# Altium schematic symbol library Inductors.SchLib: 6 symbols
Pins are listed as number, name and electrical type; pins without a type are passive.

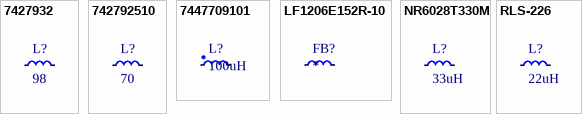
[diagram p0: symbols 7427932 to RLS-226]

## 7427932
designator L?, comment 98
Ferrite Bead 98 Ohm 2SMD 1LN; Manufacturer: Wurth Electronics; Manufacturer Part Number: 7427932; DC Resistance (DCR): 0.9mR; Max DC Current: 6A; Tolerance: 25%; Shielding: Unshielded; Number of Lines: 1; Test Frequency: 100MHz; Impedance: 98R; Supplier 1: Digi-Key; Supplier Part Number 1: 732-2394-1-ND; RoHS: Yes; Category: Ferrite Beads and Chips; Stock 1: 698; Mount: Surface Mount; Case/Package: SMD/SMT; Case Code (Metric): 4532; Case Code (Imperial): 1812; Min Operating Temperature: -55°C; Max Operating Temperature: 125°C; Termination: SMD/SMT; Package Quantity: 1; Packaging: Tape and Reel; Max Current Rating: 6A; Length: 7.8mm; Height: 3mm; Depth: 4.75mm; Width: 0.187inch; REACH SVHC: Unknown; ComponentLink1URL: https://datasheet.ciiva.com/1014/7427932-1014097.pdf?src-supplier=Digi-Key; ComponentLink1Description: https://datasheet.ciiva.com/1014/7427932-1014097.pdf?src-supplier=Digi-Key; ComponentLink2URL: https://datasheet.ciiva.com/1466/1696119-1466626.pdf?src-supplier=Element14; ComponentLink2Description: https://datasheet.ciiva.com/1466/1696119-1466626.pdf?src-supplier=Element14; ComponentLink3URL: https://datasheet.ciiva.com/11796/0900766b80f886b0-11796146.pdf?src-supplier=RSComponents; ComponentLink3Description: https://datasheet.ciiva.com/11796/0900766b80f886b0-11796146.pdf?src-supplier=RSComponents; ComponentLink4URL: https://datasheet.ciiva.com/23763/7427932-23763047.pdf?src-supplier=Newark; ComponentLink4Description: https://datasheet.ciiva.com/23763/7427932-23763047.pdf?src-supplier=Newark; ComponentLink5URL: https://datasheet.ciiva.com/4939/7427932-72413-4939403.pdf?src-supplier=Mouser; ComponentLink5Description: https://datasheet.ciiva.com/4939/7427932-72413-4939403.pdf?src-supplier=Mouser; ComponentLink6URL: https://datasheet.ciiva.com/1014/7427932-1014098.pdf?src-supplier=Digi-Key; ComponentLink6Description: https://datasheet.ciiva.com/1014/7427932-1014098.pdf?src-supplier=Digi-Key; ComponentLink7URL: https://datasheet.ciiva.com/1014/7427932-1014099.pdf?src-supplier=Digi-Key; ComponentLink7Description: https://datasheet.ciiva.com/1014/7427932-1014099.pdf?src-supplier=Digi-Key; ComponentLink8URL: https://datasheet.ciiva.com/22711/1696119-22711445.pdf?src-supplier=Element14; ComponentLink8Description: https://datasheet.ciiva.com/22711/1696119-22711445.pdf?src-supplier=Element14
footprint 7427932
pins: 1, 2

## 742792510
designator L?, comment 70
WURTH ELEKTRONIK - 742792510 - FERRITE BEAD, 70R, 6A, 1812; Manufacturer: Wurth Electronics; Max DC Current: 3mA; DC Resistance (DCR): 30mR; Test Frequency: 100MHz; Number of Lines: 1; Tolerance: 25%; Supplier 1: Digi-Key; Supplier Part Number 1: 732-1640-1-ND; Manufacturer Part Number: 742792510; RoHS: Yes; Category: Ferrite Beads and Chips; Stock 1: 5974; Mount: Surface Mount; Case/Package: SMD/SMT; Weight: 0.003951oz; Case Code (Imperial): 1812; Case Code (Metric): 4532; Material: Ferrite; Min Operating Temperature: -55°C; Max Operating Temperature: 125°C; Max Current Rating: 6A; Termination: SMD/SMT; Package Quantity: 1; Packaging: Tape and Reel; Current Rating: 6A; Impedance: 70R; Resistance: 30mR; Length: 4.5mm; Height: 1.5mm; Depth: 3.2mm; Width: 3.2mm; Lead Free: Lead Free; REACH SVHC: Unknown; ComponentLink1URL: https://datasheet.ciiva.com/1475/1695992-1475250.pdf?src-supplier=Farnell; ComponentLink1Description: https://datasheet.ciiva.com/1475/1695992-1475250.pdf?src-supplier=Farnell; ComponentLink2URL: https://datasheet.ciiva.com/11803/0900766b80bbd134-11803157.pdf?src-supplier=RSComponents; ComponentLink2Description: https://datasheet.ciiva.com/11803/0900766b80bbd134-11803157.pdf?src-supplier=RSComponents; ComponentLink3URL: https://datasheet.ciiva.com/23762/742792510-23762981.pdf?src-supplier=Newark; ComponentLink3Description: https://datasheet.ciiva.com/23762/742792510-23762981.pdf?src-supplier=Newark; ComponentLink4URL: https://datasheet.ciiva.com/4940/742792510-72179-4940456.pdf?src-supplier=Mouser; ComponentLink4Description: https://datasheet.ciiva.com/4940/742792510-72179-4940456.pdf?src-supplier=Mouser; ComponentLink5URL: https://datasheet.ciiva.com/1013/742792510-1013644.pdf?src-supplier=Digi-Key; ComponentLink5Description: https://datasheet.ciiva.com/1013/742792510-1013644.pdf?src-supplier=Digi-Key; ComponentLink6URL: https://datasheet.ciiva.com/1013/742792510-1013645.pdf?src-supplier=Digi-Key; ComponentLink6Description: https://datasheet.ciiva.com/1013/742792510-1013645.pdf?src-supplier=Digi-Key; ComponentLink7URL: https://datasheet.ciiva.com/1126/1695992-1126824.pdf?src-supplier=Element14; ComponentLink7Description: https://datasheet.ciiva.com/1126/1695992-1126824.pdf?src-supplier=Element14; ComponentLink8URL: https://datasheet.ciiva.com/1013/742792510-1013646.pdf?src-supplier=Digi-Key; ComponentLink8Description: https://datasheet.ciiva.com/1013/742792510-1013646.pdf?src-supplier=Digi-Key
footprint 1812
pins: 1, 2

## 7447709101
designator L?, comment 100uH
FIXED IND 100UH 2.5A 110 MOHM; Material: Ferrite; Impedance: 300mR; Current Rating: 500mA; Number of Lines: 1; Test Frequency: 100MHz; Resistance: 950R; Shielding: Unshielded; RoHS: Yes; Mount: Surface Mount; Case/Package: 1206; Case Code (Metric): 3216; Case Code (Imperial): 1206; Min Operating Temperature: -40°C; Max Operating Temperature: 125°C; Package Quantity: 1; Packaging: Tape and Reel; Max Current Rating: 500mA; DC Resistance (DCR): 300mR; Max DC Current: 500mA; Termination: SMD/SMT; Length: 3.2mm; Height: 0.051inch; Width: 0.063inch; Depth: 1.8mm; Lead Free: Lead Free; ComponentLink1Description: https://www.digikey.ca/product-detail/en/w-rth-elektronik/7447709101/732-1248-1-ND/1639309; ComponentLink1URL: https://www.digikey.ca/product-detail/en/w-rth-elektronik/7447709101/732-1248-1-ND/1639309; Supplier 1: Digi-Key; Supplier Part Number 1: 732-1248-1-ND
footprint 7447709101
pins: 1, 2

## LF1206E152R-10
designator FB?
FERRITE BEAD 946 OHM 1206 1LN; Manufacturer 1: Laird; Manufacturer Part Number 1: LF1206E152R-10; Impedance: 300mR; Current Rating: 500mA; Number of Lines: 1; Test Frequency: 100MHz; Resistance: 950R; Shielding: Unshielded; ComponentLink1Description: mouser; ComponentLink1URL: https://www.mouser.ca/ProductDetail/Laird-Performance-Materials/LF1206E152R-10?qs=sGAEpiMZZMtdyQheitOmRQJP4YNOTsGtF9de3w5p7BA%3D; Supplier 1: Digi-Key; Stock 1: 31440; Pricing 1: 1=0.22000, 10=0.17900, 25=0.13960, 50=0.11560, 100=0.09960, 250=0.07972, 500=0.07174, 1000=0.05978 (USD); RoHS: Yes; Mount: Surface Mount; Case/Package: 1206; Case Code (Metric): 3216; Case Code (Imperial): 1206; Material: Ferrite; Min Operating Temperature: -40°C; Max Operating Temperature: 125°C; Package Quantity: 1; Packaging: Tape and Reel; Max Current Rating: 500mA; DC Resistance (DCR): 300mR; Max DC Current: 500mA; Termination: SMD/SMT; Length: 3.2mm; Height: 0.051inch; Width: 0.063inch; Depth: 1.8mm; Lead Free: Lead Free; ComponentLink2URL: https://datasheet.ciiva.com/8512/lf1206e152r-10-a-vp-8512625.pdf?src-supplier=Avnet; ComponentLink2Description: https://datasheet.ciiva.com/8512/lf1206e152r-10-a-vp-8512625.pdf?src-supplier=Avnet; ComponentLink3URL: https://datasheet.ciiva.com/1013/lf1206e152r-10-b-1013350.pdf?src-supplier=Digi-Key; ComponentLink3Description: https://datasheet.ciiva.com/1013/lf1206e152r-10-b-1013350.pdf?src-supplier=Digi-Key; Supplier Part Number 1: 240-2566-1-ND; ComponentLink4Description: https://www.digikey.com/product-detail/en/laird-signal-integrity-products/LF1206E152R-10/240-2566-1-ND/1236446; ComponentLink4URL: https://www.digikey.com/product-detail/en/laird-signal-integrity-products/LF1206E152R-10/240-2566-1-ND/1236446
footprint L1206
pins: 1, 2

## NR6028T330M
designator L?, comment 33uH
FIXED IND 33UH 1.1A 286 MOHM SMD; Manufacturer: Taiyo Yuden; Manufacturer Part Number: NR6028T330M; Core Material: Ferrite; DC Resistance (DCR): 286mR; Test Frequency: 100kHz; Tolerance: 20%; Shielding: Shielded; Self Resonant Frequency: 10MHz; Supplier 1: Digi-Key; Supplier Part Number 1: 587-2631-1-ND; RoHS: Yes; Category: Fixed Inductors; Stock 1: 53157; Mount: Surface Mount; Case/Package: Nonstandard; Number of Pins: 2; Min Operating Temperature: -25°C; Max Operating Temperature: 120°C; Composition: Wirewound; Inductance: 33uH; Max DC Current: 1.1A; Termination: SMD/SMT; RMS Current (Irms): 1.1A; Package Quantity: 2000; Current Rating: 1.1A; Saturation Current: 1.1A; Packaging: Tape and Reel; Inductance Tolerance: 20%; Length: 0.236inch; Height: 2.8mm; Height - Seated (Max): 0.11inch; Depth: 6.2mm; Width: 0.236inch; Radiation Hardening: No; Halogen Free: Halogen Free; REACH SVHC: Unknown; ComponentLink1URL: https://datasheet.ciiva.com/8002/nr6028t330m-ss-8002153.pdf?src-supplier=Element14; ComponentLink1Description: https://datasheet.ciiva.com/8002/nr6028t330m-ss-8002153.pdf?src-supplier=Element14; ComponentLink2URL: https://datasheet.ciiva.com/1043/wound04-e-1043104.pdf?src-supplier=Digi-Key; ComponentLink2Description: https://datasheet.ciiva.com/1043/wound04-e-1043104.pdf?src-supplier=Digi-Key; ComponentLink3URL: https://datasheet.ciiva.com/4956/wound04-e-4956521.pdf?src-supplier=Mouser; ComponentLink3Description: https://datasheet.ciiva.com/4956/wound04-e-4956521.pdf?src-supplier=Mouser; ComponentLink4URL: https://datasheet.ciiva.com/1043/wound04-e-1043102.pdf?src-supplier=Digi-Key; ComponentLink4Description: https://datasheet.ciiva.com/1043/wound04-e-1043102.pdf?src-supplier=Digi-Key; ComponentLink5URL: https://datasheet.ciiva.com/1043/wound04-e-1043103.pdf?src-supplier=Digi-Key; ComponentLink5Description: https://datasheet.ciiva.com/1043/wound04-e-1043103.pdf?src-supplier=Digi-Key
footprint NR6028T330M
pins: 1, 2

## RLS-226
designator L?, comment 22uH
FIXED IND 22UH 630MA 700MOHM SMD; Manufacturer: Recom; Manufacturer Part Number: RLS-226; Supplier 1: Digi-Key; Supplier Part Number 1: 945-30004971-ND; RoHS: No; Category: Fixed Inductors; Stock 1: 15; ComponentLink1URL: https://www.recom-power.com/pdf/Accessories/RLS-226.pdf?src-supplier=Digi-Key; ComponentLink1Description: https://www.recom-power.com/pdf/Accessories/RLS-226.pdf?src-supplier=Digi-Key
footprint I-1812
pins: 1, 2